# Altium schematic symbol library SamacSys.SchLib: 207 symbols (part 3 of 3)
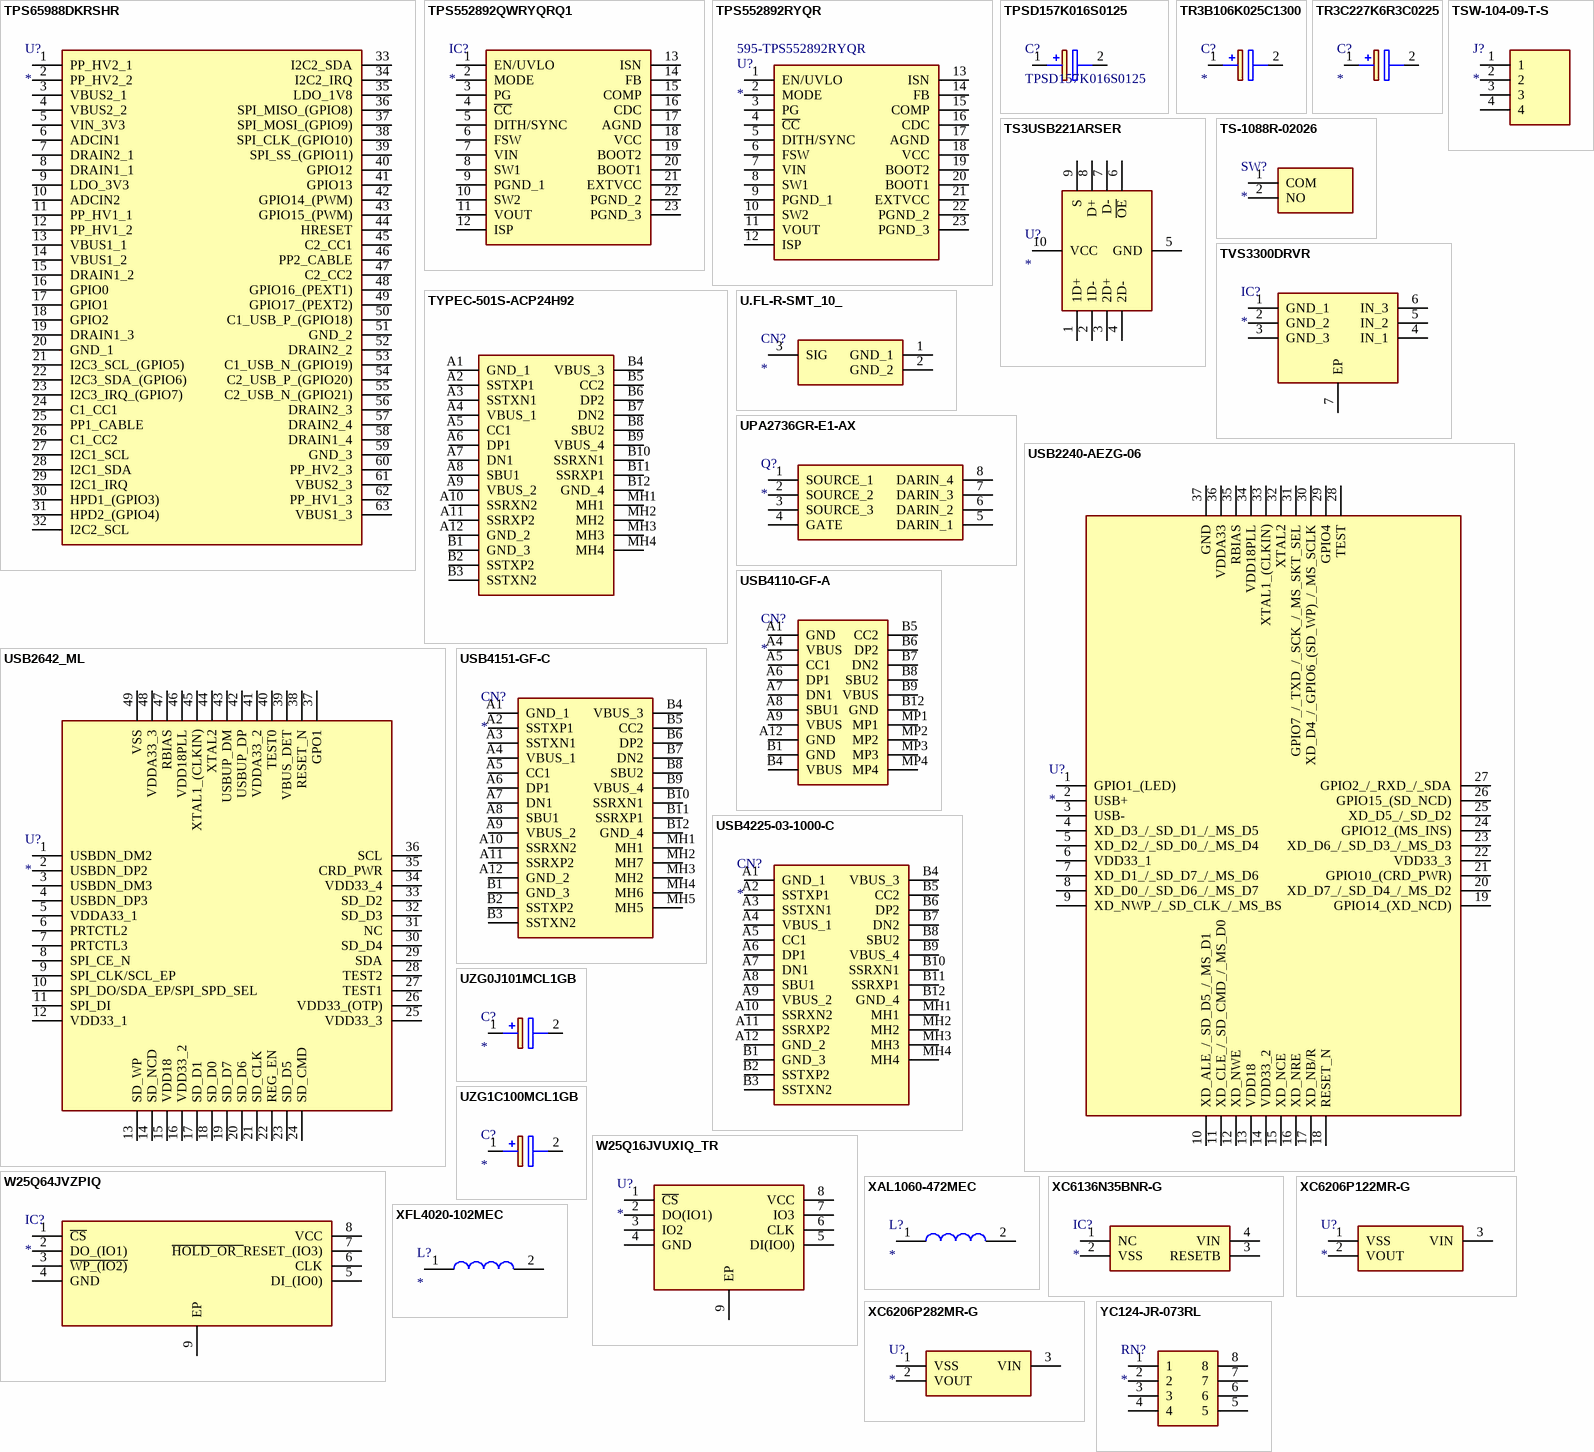
[diagram p7: symbols TPS65988DKRSHR to YC124-JR-073RL]

## TPS552892QWRYQRQ1
designator IC?
Integrated Circuit; Manufacturer_Name: Texas Instruments; Manufacturer_Part_Number: TPS552892QWRYQRQ1; Datasheet Link: https://www.ti.com/general/docs/suppproductinfo.tsp?distId=26&gotoUrl=https://www.ti.com/lit/gpn/tps552892-q1; Height: 1mm; Mouser Part Number: 595-PS552892QWRYQRQ1; Mouser Price/Stock: https://www.mouser.co.uk/ProductDetail/Texas-Instruments/TPS552892QWRYQRQ1?qs=ulEaXIWI0c%2Fb5I1dUhUhNg%3D%3D
footprint TPS552892QWRYQRQ1
pins: 1 EN/UVLO, 2 MODE, 3 PG, 4 ~{CC}, 5 DITH/SYNC, 6 FSW, 7 VIN, 8 SW1, 9 PGND_1, 10 SW2, 11 VOUT, 12 ISP, 13 ISN, 14 FB, 15 COMP, 16 CDC, 17 AGND, 18 VCC, 19 BOOT2, 20 BOOT1, 21 EXTVCC, 22 PGND_2, 23 PGND_3

## TPS552892RYQR
designator U?  Supplier Part Number 1: 595-TPS552892RYQR
Integrated Circuit; Manufacturer_Name: Texas Instruments; Manufacturer_Part_Number: TPS552892RYQR; Datasheet Link: https://www.ti.com/lit/ds/symlink/tps552892.pdf?ts=1698770017628&ref_url=https%253A%252F%252Fwww.ti.com%252Fsitesearch%252Fen-us%252Fdocs%252Funiversalsearch.tsp%253FlangPref%253Den-US%2526searchTerm%253DTPS552892RYQR%2526nr%253D8; Height: 1mm; Mouser Part Number: 595-TPS552892RYQR; Mouser Price/Stock: https://www.mouser.co.uk/ProductDetail/Texas-Instruments/TPS552892RYQR?qs=ulEaXIWI0c%252B6pAm7sJRUGQ%3D%3D; Arrow Part Number: TPS552892RYQR; Arrow Price/Stock: https://www.arrow.com/en/products/tps552892ryqr/texas-instruments?region=nac; Supplier 1: Mouser
footprint TPS552892RYQR
pins: 1 EN/UVLO, 2 MODE, 3 PG, 4 ~{CC}, 5 DITH/SYNC, 6 FSW, 7 VIN, 8 SW1, 9 PGND_1, 10 SW2, 11 VOUT, 12 ISP, 13 ISN, 14 FB, 15 COMP, 16 CDC, 17 AGND, 18 VCC, 19 BOOT2, 20 BOOT1, 21 EXTVCC, 22 PGND_2, 23 PGND_3

## TPSD157K016S0125
designator C?
Capacitor Polarised; Manufacturer_Name: AVX; Datasheet Link: http://datasheets.avx.com/TAJ.pdf; Height: 3.1mm; Manufacturer_Part_Number: TPSD157K016S0125; Mouser Part Number: 581-TPSD157K016S0125; Mouser Price/Stock: https://www.mouser.co.uk/ProductDetail/AVX/TAJD157K016RNJV?qs=%252BZP6%2F%252BtExtCxiQ2tCar1OQ%3D%3D; Arrow Part Number: TPSD157K016S0125; Arrow Price/Stock: https://www.arrow.com/en/products/tajd157k016rnjv/avx
footprint CAPPM7344X310N
pins: 1 +, 2 -

## TR3B106K025C1300
designator C?
Capacitor Polarised; Manufacturer_Name: Vishay; Manufacturer_Part_Number: TR3B106K025C1300; Datasheet Link: http://www.vishay.com/doc?40080; Height: 2.1mm; Mouser Part Number: 74-TR3B106K025C1300; Mouser Price/Stock: https://www.mouser.co.uk/ProductDetail/Vishay-Sprague/TR3B106K025C1300?qs=jCGqFXxTmLdffnuDkXzk1g%3D%3D; Arrow Part Number: TR3B106K025C1300; Arrow Price/Stock: https://www.arrow.com/en/products/tr3b106k025c1300/vishay?region=nac
footprint CAPPM3528X210N
pins: 1 +, 2 -

## TR3C227K6R3C0225
designator C?
Capacitor Polarised; Manufacturer_Name: Vishay; Manufacturer_Part_Number: TR3C227K6R3C0225; Datasheet Link: http://www.vishay.com/doc?40080; Height: 2.8mm; Supplier 1: Mouser; Supplier Part Number 1: 74-TR3C227K6R3C0225
footprint CAPPM6032X280N
pins: 1 +, 2 -

## TS3USB221ARSER
designator U?
Integrated Circuit; Manufacturer_Name: Texas Instruments; Manufacturer_Part_Number: TS3USB221ARSER; Datasheet Link: http://www.ti.com/lit/gpn/ts3usb221a; Mouser Part Number: 595-TS3USB221ARSER; Mouser Price/Stock: https://www.mouser.co.uk/ProductDetail/Texas-Instruments/TS3USB221ARSER?qs=thoY7cUjDWk41mVK7sQGWw%3D%3D; Arrow Part Number: TS3USB221ARSER; Arrow Price/Stock: https://www.arrow.com/en/products/ts3usb221arser/texas-instruments?region=nac
footprint RSE(R-PUQFN-N10)
pins: 1 1D+, 2 1D-, 3 2D+, 4 2D-, 5 GND, 6 ~{OE}, 7 D-, 8 D+, 9 S, 10 VCC

## TS-1088R-02026
designator SW?
Switch; Manufacturer_Name: XUNPU; Manufacturer_Part_Number: TS-1088R-02026; Datasheet Link: https://datasheet.lcsc.com/szlcsc/1912111437_XUNPU-TS-1088R-02026_C455280.pdf
footprint TS1088R02026
pins: 1 COM, 2 NO

## TSW-104-09-T-S
designator J?
Connector; Manufacturer_Name: SAMTEC; Manufacturer_Part_Number: TSW-104-09-T-S; Datasheet Link: http://suddendocs.samtec.com/prints/tsw-xxx-xx-xxx-x-xx-xxx-mkt.pdf
footprint TSW-104-XX-YY-S
pins: 1, 2, 3, 4

## TVS3300DRVR
designator IC?
Integrated Circuit; Manufacturer_Name: Texas Instruments; Manufacturer_Part_Number: TVS3300DRVR; Datasheet Link: http://www.ti.com/lit/ds/symlink/tvs3300.pdf; Height: 0.8mm; Mouser Part Number: 595-TVS3300DRVR; Mouser Price/Stock: https://www.mouser.co.uk/ProductDetail/Texas-Instruments/TVS3300DRVR?qs=Mv7BduZupUi7J6BLZ4hOYw%3D%3D; Arrow Part Number: TVS3300DRVR; Arrow Price/Stock: https://www.arrow.com/en/products/tvs3300drvr/texas-instruments?region=nac
footprint SON65P200X200X80-7N
pins: 1 GND_1, 2 GND_2, 3 GND_3, 4 IN_1, 5 IN_2, 6 IN_3, 7 EP

## TYPEC-501S-ACP24H92
designator CN?
Connector; Manufacturer_Name: XUNPU; Manufacturer_Part_Number: TYPEC-501S-ACP24H92; Datasheet Link: https://media.digikey.com/pdf/Data%20Sheets/APEM%20Components%20PDFs/APTCLGTV.pdf; Height: 9.2mm; LCSC Part Number: C2840394; Supplier: LCSC; Supplier Part Number: C2840394
footprint USB-C-SMD_TYPEC-501S-ACP24H92
pins: A1 GND_1, A2 SSTXP1, A3 SSTXN1, A4 VBUS_1, A5 CC1, A6 DP1, A7 DN1, A8 SBU1, A9 VBUS_2, A10 SSRXN2, A11 SSRXP2, A12 GND_2, B1 GND_3, B2 SSTXP2, B3 SSTXN2, B4 VBUS_3, B5 CC2, B6 DP2, B7 DN2, B8 SBU2, B9 VBUS_4, B10 SSRXN1, B11 SSRXP1, B12 GND_4, MH1, MH2, MH3, MH4

## U.FL-R-SMT_10_
designator CN?
Connector; Manufacturer_Name: Hirose; Manufacturer_Part_Number: U.FL-R-SMT(10); Datasheet Link: https://media.digikey.com/pdf/Data%20Sheets/Hirose%20PDFs/UFL%20Series.pdf; Height: 1.25mm; Mouser Part Number: 798-U.FL-R-SMT10; Mouser Price/Stock: https://www.mouser.co.uk/ProductDetail/Hirose-Connector/U.FL-R-SMT10?qs=Ux3WWAnHpjBT1CWD8UMEMQ%3D%3D; Arrow Part Number: U.FL-R-SMT(10); Arrow Price/Stock: https://www.arrow.com/en/products/u.fl-r-smt-10/hirose-electric?utm_currency=USD&region=nac
footprint UFLRSMT10
pins: 1 GND_1, 2 GND_2, 3 SIG

## UPA2736GR-E1-AX
designator Q?
MOSFET (N-Channel); Manufacturer_Name: Renesas Electronics; Manufacturer_Part_Number: UPA2736GR-E1-AX; Datasheet Link: https://www.renesas.com/en-us/doc/products/transistor/002/r07ds1320ej0100_pomosfet.pdf; Height: 1.75mm; Mouser Part Number: 968-UPA2736GR-E1-AX; Mouser Price/Stock: https://www.mouser.co.uk/ProductDetail/Renesas-Electronics/UPA2736GR-E1-AX?qs=gZXFycFWdANYthhcfRRuvQ%3D%3D
footprint SOIC127P600X175-8N
pins: 1 SOURCE_1, 2 SOURCE_2, 3 SOURCE_3, 4 GATE, 5 DARIN_1, 6 DARIN_2, 7 DARIN_3, 8 DARIN_4

## USB2240-AEZG-06
designator U?
Integrated Circuit; Manufacturer_Name: Microchip; Manufacturer_Part_Number: USB2240-AEZG-06; Datasheet Link: https://componentsearchengine.com/Datasheets/2/USB2240-AEZG-06.pdf; Height: 1mm; Mouser Part Number: 886-USB2240-AEZG-06; Mouser Price/Stock: https://www.mouser.co.uk/ProductDetail/Microchip-Technology/USB2240-AEZG-06?qs=pA5MXup5wxHoIFvrAD2h5w%3D%3D; Arrow Part Number: USB2240-AEZG-06; Arrow Price/Stock: https://www.arrow.com/en/products/usb2240-aezg-06/microchip-technology?region=nac
footprint QFN50P600X600X100-37N-D
pins: 1 GPIO1_(LED), 2 USB+, 3 USB-, 4 XD_D3_/_SD_D1_/_MS_D5, 5 XD_D2_/_SD_D0_/_MS_D4, 6 VDD33_1, 7 XD_D1_/_SD_D7_/_MS_D6, 8 XD_D0_/_SD_D6_/_MS_D7, 9 XD_NWP_/_SD_CLK_/_MS_BS, 10 XD_ALE_/_SD_D5_/_MS_D1, 11 XD_CLE_/_SD_CMD_/_MS_D0, 12 XD_NWE, 13 VDD18, 14 VDD33_2, 15 XD_NCE, 16 XD_NRE, 17 XD_NB/R, 18 RESET_N, 19 GPIO14_(XD_NCD), 20 XD_D7_/_SD_D4_/_MS_D2, 21 GPIO10_(CRD_PWR), 22 VDD33_3, 23 XD_D6_/_SD_D3_/_MS_D3, 24 GPIO12_(MS_INS), 25 XD_D5_/_SD_D2, 26 GPIO15_(SD_NCD), 27 GPIO2_/_RXD_/_SDA, 28 TEST, 29 GPIO4, 30 XD_D4_/_GPIO6_(SD_WP)_/_MS_SCLK, 31 GPIO7_/_TXD_/_SCK_/_MS_SKT_SEL, 32 XTAL2, 33 XTAL1_(CLKIN), 34 VDD18PLL, 35 RBIAS, 36 VDDA33, 37 GND

## USB2642_ML
designator U?
Integrated Circuit; Manufacturer_Name: Microchip; Manufacturer_Part_Number: USB2642/ML; Datasheet Link: https://ww1.microchip.com/downloads/en/DeviceDoc/00001578D.pdf; Height: 1mm; Mouser Part Number: 579-USB2642/ML; Mouser Price/Stock: https://www.mouser.co.uk/ProductDetail/Microchip-Technology/USB2642-ML?qs=QaDcGzfVzPObW87K%252BY67cQ%3D%3D; Arrow Part Number: USB2642/ML; Arrow Price/Stock: https://www.arrow.com/en/products/usb2642ml/microchip-technology
footprint QFN50P700X700X100-49N-D
pins: 1 USBDN_DM2, 2 USBDN_DP2, 3 USBDN_DM3, 4 USBDN_DP3, 5 VDDA33_1, 6 PRTCTL2, 7 PRTCTL3, 8 SPI_CE_N, 9 SPI_CLK/SCL_EP, 10 SPI_DO/SDA_EP/SPI_SPD_SEL, 11 SPI_DI, 12 VDD33_1, 13 SD_WP, 14 SD_NCD, 15 VDD18, 16 VDD33_2, 17 SD_D1, 18 SD_D0, 19 SD_D7, 20 SD_D6, 21 SD_CLK, 22 REG_EN, 23 SD_D5, 24 SD_CMD, 25 VDD33_3, 26 VDD33_(OTP), 27 TEST1, 28 TEST2, 29 SDA, 30 SD_D4, 31 NC, 32 SD_D3, 33 SD_D2, 34 VDD33_4, 35 CRD_PWR, 36 SCL, 37 GPO1, 38 RESET_N, 39 VBUS_DET, 40 TEST0, 41 VDDA33_2, 42 USBUP_DP, 43 USBUP_DM, 44 XTAL2, 45 XTAL1_(CLKIN), 46 VDD18PLL, 47 RBIAS, 48 VDDA33_3, 49 VSS

## USB4110-GF-A
designator CN?
Connector; Manufacturer_Name: GCT (GLOBAL CONNECTOR TECHNOLOGY); Manufacturer_Part_Number: USB4110-GF-A; Datasheet Link: https://gct.co/files/drawings/usb4110.pdf; Height: 3.26mm; Mouser Part Number: 640-USB4110-GF-A; Mouser Price/Stock: https://www.mouser.co.uk/ProductDetail/GCT/USB4110-GF-A?qs=KUoIvG%2F9IlYiZvIXQjyJeA%3D%3D
footprint USB4110GFA
pins: A1 GND, A4 VBUS, A5 CC1, A6 DP1, A7 DN1, A8 SBU1, A9 VBUS, A12 GND, B1 GND, B4 VBUS, B5 CC2, B6 DP2, B7 DN2, B8 SBU2, B9 VBUS, B12 GND, MP1, MP2, MP3, MP4

## USB4151-GF-C
designator CN?
Connector; Manufacturer_Name: GCT (GLOBAL CONNECTOR TECHNOLOGY); Manufacturer_Part_Number: USB4151-GF-C; Datasheet Link: https://gct.co/files/drawings/usb4151.pdf; Height: 11.35mm; Mouser Part Number: 640-USB4151-GF-C; Mouser Price/Stock: https://www.mouser.co.uk/ProductDetail/GCT/USB4151-GF-C?qs=KUoIvG%2F9IlY4HaJSFPtBdg%3D%3D
footprint USB4151GFC
pins: A1 GND_1, A2 SSTXP1, A3 SSTXN1, A4 VBUS_1, A5 CC1, A6 DP1, A7 DN1, A8 SBU1, A9 VBUS_2, A10 SSRXN2, A11 SSRXP2, A12 GND_2, B1 GND_3, B2 SSTXP2, B3 SSTXN2, B4 VBUS_3, B5 CC2, B6 DP2, B7 DN2, B8 SBU2, B9 VBUS_4, B10 SSRXN1, B11 SSRXP1, B12 GND_4, MH1, MH2 MH7, MH3 MH2, MH4 MH6, MH5

## USB4225-03-1000-C
designator CN?
Connector; Manufacturer_Name: GCT (GLOBAL CONNECTOR TECHNOLOGY); Manufacturer_Part_Number: USB4225-03-1000-C; Datasheet Link: https://gct.co/Files/Drawings/USB4225.pdf?v=81d953bf-30e3-4388-b149-3b4b549947bf; Height: 11.25mm; Mouser Part Number: 640-USB4225031000C; Mouser Price/Stock: https://www.mouser.co.uk/ProductDetail/GCT/USB4225-03-1000-C?qs=iLKYxzqNS77K8a1qYAX%252BjA%3D%3D
footprint USB4225031000C
pins: A1 GND_1, A2 SSTXP1, A3 SSTXN1, A4 VBUS_1, A5 CC1, A6 DP1, A7 DN1, A8 SBU1, A9 VBUS_2, A10 SSRXN2, A11 SSRXP2, A12 GND_2, B1 GND_3, B2 SSTXP2, B3 SSTXN2, B4 VBUS_3, B5 CC2, B6 DP2, B7 DN2, B8 SBU2, B9 VBUS_4, B10 SSRXN1, B11 SSRXP1, B12 GND_4, MH1, MH2, MH3, MH4

## UZG0J101MCL1GB
designator C?
Capacitor Polarised; Manufacturer_Name: Nichicon; Manufacturer_Part_Number: UZG0J101MCL1GB; Datasheet Link: https://www.mouser.com/datasheet/2/293/e-uzg-786085.pdf; Height: 3.95mm; Mouser Part Number: 647-UZG0J101MCL1GB; Mouser Price/Stock: https://www.mouser.com/Search/Refine.aspx?Keyword=647-UZG0J101MCL1GB
footprint CAPAE660X395N
pins: 1 +, 2 -

## UZG1C100MCL1GB
designator C?
Capacitor Polarised; Manufacturer_Name: Nichicon; Manufacturer_Part_Number: UZG1C100MCL1GB; Datasheet Link: https://www.mouser.com/datasheet/2/293/e_uzg-2943377.pdf; Height: 3.95mm; Mouser Part Number: 647-UZG1C100MCL1GB; Mouser Price/Stock: https://www.mouser.co.uk/ProductDetail/Nichicon/UZG1C100MCL1GB?qs=UBiR96IgLrQPAKI%2FbNPsyA%3D%3D; Arrow Part Number: UZG1C100MCL1GB; Arrow Price/Stock: https://www.arrow.com/en/products/uzg1c100mcl1gb/nichicon
footprint CAPAE430X395N
pins: 1 +, 2 -

## W25Q16JVUXIQ_TR
designator U?
Integrated Circuit; Manufacturer_Name: Winbond; Manufacturer_Part_Number: W25Q16JVUXIQ TR; Datasheet Link: https://componentsearchengine.com/Datasheets/1/W25Q16JVUXIQ TR.pdf; Height: 0.6mm; Mouser Part Number: 454-W25Q16JVUXIQTR; Mouser Price/Stock: https://www.mouser.co.uk/ProductDetail/Winbond/W25Q16JVUXIQ-TR?qs=qSfuJ%252Bfl%2Fd7SDdIHLGOd1g%3D%3D; Arrow Part Number: W25Q16JVUXIQ TR; Arrow Price/Stock: https://www.arrow.com/en/products/w25q16jvuxiqtr/winbond-electronics?region=nac
footprint SON50P300X200X60-9N
pins: 1 ~{CS}, 2 DO(IO1), 3 IO2, 4 GND, 5 DI(IO0), 6 CLK, 7 IO3, 8 VCC, 9 EP

## W25Q64JVZPIQ
designator IC?
Integrated Circuit; Manufacturer_Name: Winbond; Manufacturer_Part_Number: W25Q64JVZPIQ; Datasheet Link: https://www.winbond.com/hq/search-resource-file.jsp?partNo=W25Q64JVZPIQ&type=datasheet; Height: 0.8mm; Mouser Part Number: 454-W25Q64JVZPIQ; Mouser Price/Stock: https://www.mouser.co.uk/ProductDetail/Winbond/W25Q64JVZPIQ?qs=qSfuJ%252Bfl%2Fd7Nj8XAKQ%2FzKA%3D%3D; Arrow Part Number: W25Q64JVZPIQ; Arrow Price/Stock: https://www.arrow.com/en/products/w25q64jvzpiq/winbond-electronics?region=nac
footprint SON127P600X500X80-9N-D
pins: 1 ~{CS}, 2 DO_(IO1), 3 ~{WP_(IO2)}, 4 GND, 5 DI_(IO0), 6 CLK, 7 ~{HOLD_OR_}RESET_(IO3), 8 VCC, 9 EP

## XAL1060-472MEC
designator L?
Inductor; Manufacturer_Name: COILCRAFT; Manufacturer_Part_Number: XAL1060-472MEC; Datasheet Link: https://www.coilcraft.com/getmedia/8909f858-b441-4d60-acff-8b8ca36f9ede/xal1060.pdf; Height: 6mm; Mouser Part Number: 994-XAL1060-472MEC; Mouser Price/Stock: https://www.mouser.co.uk/ProductDetail/Coilcraft/XAL1060-472MEC?qs=zCSbvcPd3pbHggbR0P0UJA%3D%3D
footprint XAL1060472MEC
pins: 1, 2

## XC6136N35BNR-G
designator IC?
Integrated Circuit; Manufacturer_Name: Torex; Manufacturer_Part_Number: XC6136N35BNR-G; Datasheet Link: https://www.torexsemi.com/file/xc6136/XC6136.pdf; Height: 1.1mm; Mouser Part Number: 865-XC6136N35BNR-G; Mouser Price/Stock: https://www.mouser.co.uk/ProductDetail/Torex-Semiconductor/XC6136N35BNR-G?qs=T3oQrply3y%252BoEyjYGdDjug%3D%3D
footprint XC6136C12ANRG
pins: 1 NC, 2 VSS, 3 RESETB, 4 VIN

## XC6206P122MR-G
designator U?
Integrated Circuit; Manufacturer_Name: Torex; Manufacturer_Part_Number: XC6206P122MR-G; Datasheet Link: https://www.torexsemi.com/file/xc6206/XC6206.pdf; Height: 1.3mm; Mouser Part Number: 865-XC6206P122MR-G; Mouser Price/Stock: https://www.mouser.co.uk/ProductDetail/Torex-Semiconductor/XC6206P122MR-G?qs=AsjdqWjXhJ%2F35%2FU%2FZk2JYg%3D%3D
footprint SOT95P280X130-3N
pins: 1 VSS, 2 VOUT, 3 VIN

## XC6206P282MR-G
designator U?
Integrated Circuit; Manufacturer_Name: Torex; Manufacturer_Part_Number: XC6206P282MR-G; Datasheet Link: https://www.torexsemi.com/file/xc6206/XC6206.pdf; Height: 1.3mm; Mouser Part Number: 865-XC6206P282MR-G; Mouser Price/Stock: https://www.mouser.co.uk/ProductDetail/Torex-Semiconductor/XC6206P282MR-G?qs=AsjdqWjXhJ%2Fpd3DOBopSeA%3D%3D
footprint SOT95P280X130-3N
pins: 1 VSS, 2 VOUT, 3 VIN

## XFL4020-102MEC
designator L?
Inductor; Manufacturer_Name: COILCRAFT; Manufacturer_Part_Number: XFL4020-102MEC; Datasheet Link: https://www.coilcraft.com/pdfs/xfl4020.pdf; Mouser Part Number: 994-XFL4020-102MEC; Mouser Price/Stock: https://www.mouser.co.uk/ProductDetail/Coilcraft/XFL4020-102MEC?qs=zCSbvcPd3pbaYHL7viZwQA%3D%3D
footprint XFL4020
pins: 1, 2

## YC124-JR-073RL
designator RN?
Resistor Network; Manufacturer_Name: YAGEO; Manufacturer_Part_Number: YC124-JR-0733RL; Datasheet Link: https://www.yageo.com/upload/media/product/productsearch/datasheet/rchip/PYu-YC_TC_group_51_RoHS_L_9.pdf; Height: 0.55mm; Mouser Part Number: 603-YC124-JR-0733RL; Mouser Price/Stock: https://www.mouser.co.uk/ProductDetail/YAGEO/YC124-JR-0733RL?qs=o9qB%2F%252BVTi4U0zU6ismVxOQ%3D%3D; Arrow Part Number: YC124-JR-0733RL; Arrow Price/Stock: https://www.arrow.com/en/products/yc124-jr-0733rl/yageo?region=nac
footprint YC124JR0733RL
pins: 1, 2, 3, 4, 5, 6, 7, 8